# Altium footprint library Solar_PcbLib1.PcbLib: 24 footprints (part 2 of 2)
Each footprint in its own frame and in the unit in brackets; x right, y up, seen from the top. Pads: shape width x height; smd on the part's side, far side on the other; paste and mask are expansions set on the pad; w line width, h text height; cw(c..) or ccw(c..) is an arc to the next point about the centre after c.
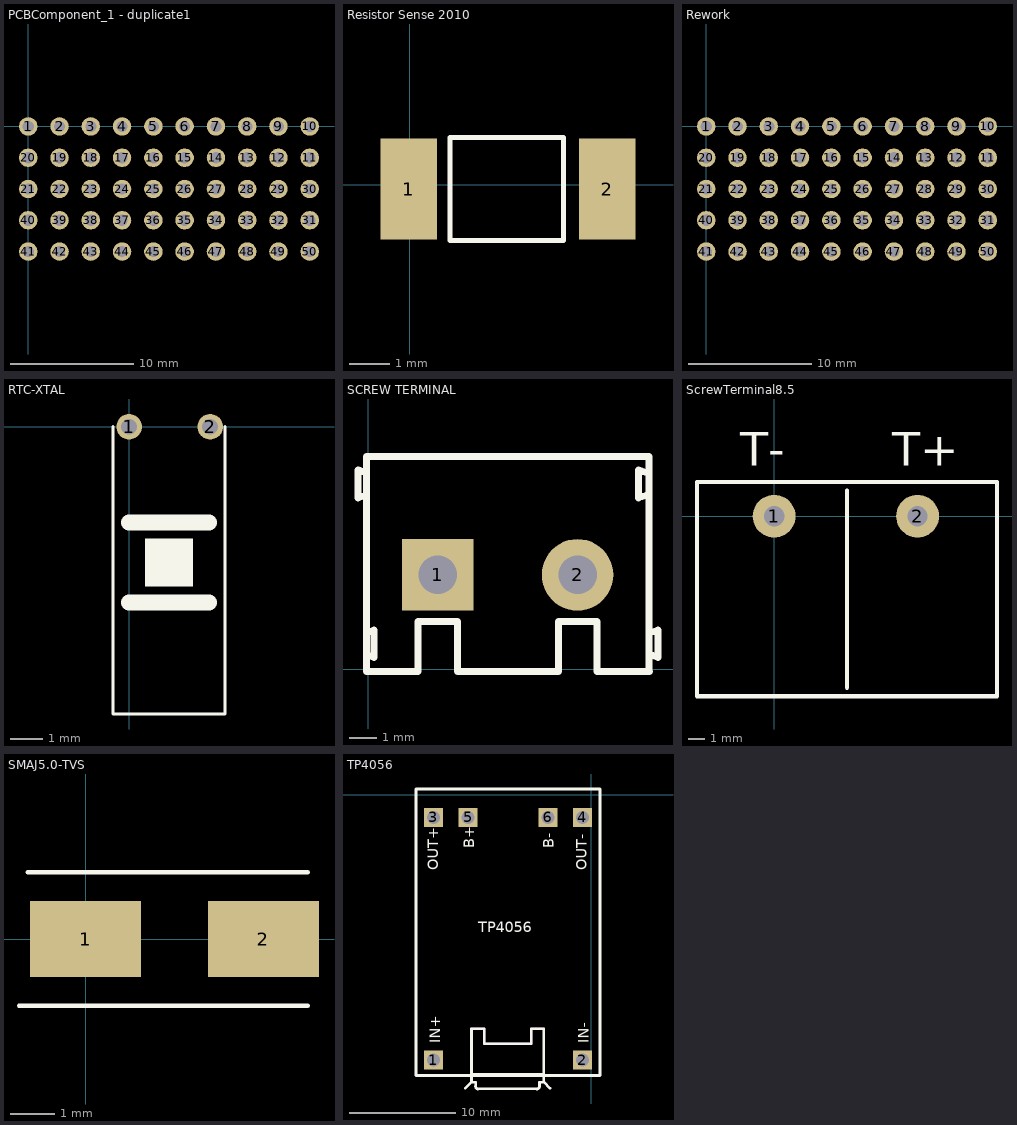
[diagram p1: the footprints below, top view; thin cyan lines are the x and y axes]

## PCBComponent_1 - duplicate1 [mm]
pads (50):
  round 1.5 hole 0.9: 1(0,0) 2(2.54,0) 3(5.08,0) 4(7.62,0) 5(10.16,0) 6(12.7,0) 7(15.24,0) 8(17.78,0) 9(20.32,0) 10(22.86,0) 11(22.86,-2.54) 12(20.32,-2.54) 13(17.78,-2.54) 14(15.24,-2.54) 15(12.7,-2.54) 16(10.16,-2.54) 17(7.62,-2.54) 18(5.08,-2.54) 19(2.54,-2.54) 20(0,-2.54) 21(0,-5.08) 22(2.54,-5.08) 23(5.08,-5.08) 24(7.62,-5.08) 25(10.16,-5.08) 26(12.7,-5.08) 27(15.24,-5.08) 28(17.78,-5.08) 29(20.32,-5.08) 30(22.86,-5.08) 31(22.86,-7.62) 32(20.32,-7.62) 33(17.78,-7.62) 34(15.24,-7.62) 35(12.7,-7.62) 36(10.16,-7.62) 37(7.62,-7.62) 38(5.08,-7.62) 39(2.54,-7.62) 40(0,-7.62) 41(0,-10.16) 42(2.54,-10.16) 43(5.08,-10.16) 44(7.62,-10.16) 45(10.16,-10.16) 46(12.7,-10.16) 47(15.24,-10.16) 48(17.78,-10.16) 49(20.32,-10.16) 50(22.86,-10.16)

## Resistor Sense 2010 [mm] "2010 Resistor"
pads (2):
  rect 1.4x2.499 smd: 1(-0.024,-0.105) 2(4.878,-0.105)
Top Overlay:
  lines w0.127: 1,-1.375 1,1.165 3.8,1.165 3.8,-1.375 1,-1.375

## Rework [mm]
pads (50):
  round 1.5 hole 0.9: 1(0,0) 2(2.54,0) 3(5.08,0) 4(7.62,0) 5(10.16,0) 6(12.7,0) 7(15.24,0) 8(17.78,0) 9(20.32,0) 10(22.86,0) 11(22.86,-2.54) 12(20.32,-2.54) 13(17.78,-2.54) 14(15.24,-2.54) 15(12.7,-2.54) 16(10.16,-2.54) 17(7.62,-2.54) 18(5.08,-2.54) 19(2.54,-2.54) 20(0,-2.54) 21(0,-5.08) 22(2.54,-5.08) 23(5.08,-5.08) 24(7.62,-5.08) 25(10.16,-5.08) 26(12.7,-5.08) 27(15.24,-5.08) 28(17.78,-5.08) 29(20.32,-5.08) 30(22.86,-5.08) 31(22.86,-7.62) 32(20.32,-7.62) 33(17.78,-7.62) 34(15.24,-7.62) 35(12.7,-7.62) 36(10.16,-7.62) 37(7.62,-7.62) 38(5.08,-7.62) 39(2.54,-7.62) 40(0,-7.62) 41(0,-10.16) 42(2.54,-10.16) 43(5.08,-10.16) 44(7.62,-10.16) 45(10.16,-10.16) 46(12.7,-10.16) 47(15.24,-10.16) 48(17.78,-10.16) 49(20.32,-10.16) 50(22.86,-10.16)

## RTC-XTAL [mm] "RTC Crystal 32.768KHz"
pads (2):
  round 0.8 hole 0.5: 1(0,0) 2(2.54,0)
Top Overlay:
  rectangle: 0.5,-5 2,-3.5
  lines w0.1: -0.5,0 -0.5,-9 3,-9 3,0
  lines w0.5: 0,-5.5 2.5,-5.5 ; 0,-3 2.5,-3

## SCREW TERMINAL [mm] "PG Connector"
pads (2):
  rect 2.601x2.601 hole 1.402: 1(2.521,3.424)
  round 2.601 hole 1.402: 2(7.601,3.424)
Top Overlay:
  lines w0.254: -0.07,0.529 0.209,0.427 0.209,1.418 -0.07,1.316 ; 10.115,6.32 9.81,6.218 9.81,7.234 10.115,7.133 ; 10.191,-0.081 10.191,7.717 -0.07,7.717 -0.07,7.133 ; 10.217,-0.081 8.312,-0.081 8.312,1.722 6.915,1.722 6.915,-0.081 3.232,-0.081 3.232,1.722 1.809,1.722 1.809,-0.081 -0.07,-0.081 -0.07,6.32 ; 10.217,0.529 10.522,0.427 10.522,1.418 10.217,1.316 ; -0.07,6.32 -0.07,7.133 ; -0.07,6.32 -0.375,6.218 -0.375,7.234 -0.07,7.133

## ScrewTerminal8.5 [mm] "KF8500 Greeen Screw Terminal for Thermocouple"
pads (2):
  round 2.54 hole 1.2: 1(0,0) 2(8.5,0)
Top Overlay:
  lines w0.254: 3.048,2.032 -4.572,2.032 ; 4.318,-10.16 4.318,1.524 ; -4.572,2.032 13.208,2.032 13.208,-10.668 -4.572,-10.668 -4.572,2.032
  text "T-" at -2,3 h2
  text "T+" at 7,3 h2

## SMAJ5.0-TVS [mm] "400W SURFACE MOUNT TRANSIENT VOLTAGE SUPPRESSOR"
pads (2):
  rect 2.5x1.7 smd: 1(0,0) 2(4,0)
Top Overlay:
  lines w0.1: -1.5,-1.5 5,-1.5 ; -1.3,1.5 5,1.5

## TP4056 [mm] "BAT CHARGER"
pads (6):
  rect 1.8x1.8 hole 1.199: 1(-14.817,-24.922) 2(-0.817,-24.922) 3(-14.817,-2.118) 4(-0.817,-2.118) 5(-11.566,-2.118) 6(-4.068,-2.118)
Top Overlay:
  lines w0.254: -11.838,-27.575 -11.254,-26.991 ; -11.254,-23.587 -11.254,-21.987 ; -10.86,-27.386 ccw(c-10.621,-27.399) -10.659,-27.635 ; -10.847,-27.372 -10.847,-26.991 -11.254,-26.991 ; -10.644,-27.626 -5.107,-27.626 ; -5.109,-27.635 ccw(c-5.096,-27.396) -4.86,-27.437 ; -4.853,-27.423 -4.853,-26.991 -4.446,-26.991 ; -4.446,-23.587 -4.446,-21.987 ; -3.862,-27.575 -4.446,-26.991 ; -11.254,-26.991 -11.254,-26.28 ; -11.254,-26.28 -11.254,-21.987 ; -11.254,-26.28 -4.446,-26.28 ; -11.254,-21.987 -10.06,-21.987 -10.06,-23.384 -5.64,-23.384 -5.64,-21.987 -4.446,-21.987 ; -4.446,-26.991 -4.446,-26.28 ; -4.446,-26.28 -4.446,-21.987 ; -16.451,-26.374 -16.451,0.55 0.821,0.55 0.821,-26.374 -16.451,-26.374
  text "OUT+" at -14.391,-7.074 h1
  text "B+" at -10.975,-5.006 h1
  text "B-" at -3.512,-5.014 h1
  text "OUT-" at -0.421,-7.074 h1
  text "IN+" at -14.175,-23.335 h1
  text "IN-" at -0.205,-23.335 h1
  text "TP4056" at -10.611,-12.913 h1
Mechanical 15:
  lines w0.254: -11.254,-26.28 -4.446,-26.28 ; -11.254,-21.987 -10.06,-21.987 -10.06,-23.384 -5.64,-23.384 -5.64,-21.987 -4.446,-21.987